# EAGLE library part CONNECTOR_13 (library SnapEDA)
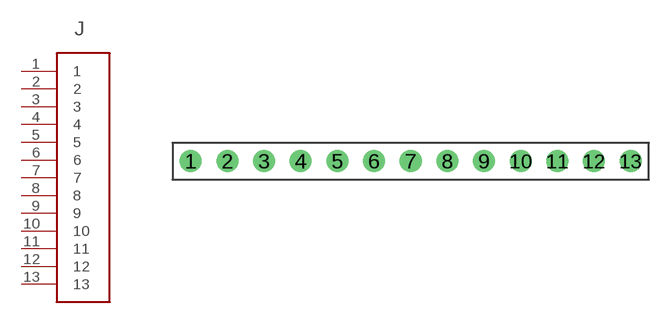
[diagram p19: symbol with the pads of 68000-113HLF_NO_SQUARE; footprint 68000-113HLF_NO_SQUARE]

Designator prefix J

## CONNECTOR_13  [68000-113HLF_NO_SQUARE]
1  1
2  2
3  3
4  4
5  5
6  6
7  7
8  8
9  9
10  10
11  11
12  12
13  13

## Footprint 68000-113HLF_NO_SQUARE (pad centres in mm)
drill 1.016: 1 -15.24,0; 2 -12.7,0; 3 -10.16,0; 4 -7.62,0; 5 -5.08,0; 6 -2.54,0; 7 0,0; 8 2.54,0; 9 5.08,0; 10 7.62,0; 11 10.16,0; 12 12.7,0; 13 15.24,0